# Altium footprint library SM_MSS1210-REV1.PcbLib: 1 footprints
Each footprint in its own frame and in the unit in brackets; x right, y up, seen from the top. Pads: shape width x height; smd on the part's side, far side on the other; paste and mask are expansions set on the pad; w line width, h text height; cw(c..) or ccw(c..) is an arc to the next point about the centre after c.
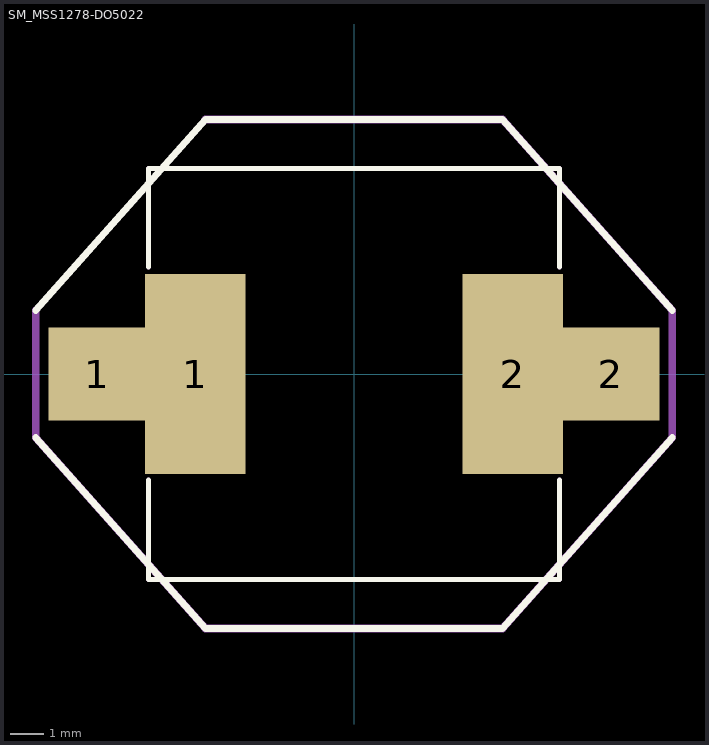
[diagram p0: the footprint, top view; thin cyan lines are the x and y axes]

## SM_MSS1278-DO5022 [mil]
pads (4):
  rect 115x110 smd: 1(-302.5,0) 2(302.5,0)
  rect 118.1x236.2 smd: 1(-187,0) 2(187,0)
Top Overlay:
  lines w5.9: -242.12,-125 -242.12,-242.12 242.13,-242.12 242.13,-125 ; -242.12,126 -242.12,242.12 242.13,242.12 242.13,126
  lines w8: -375,-75 -175,-300 175,-300 375,-75 ; -375,75 -175,300 175,300 375,75
Mechanical 1:
  lines w5.9: -242.12,-125 -242.12,-242.12 242.13,-242.12 242.13,-125 ; -242.12,126 -242.12,242.12 242.13,242.12 242.13,126
  lines w9: -375,75 -375,-75 -175,-300 175,-300 375,-75 375,75 175,300 -175,300
3D body: height 275.79, standoff -3.94, extent -355,-290 355,290
3D body: height 316.93, standoff -1.38, extent -243.12,-242.12 241.13,242.13